# Altium schematic symbol library WH1602B.SchLib: 1 symbol
Pins are listed as number, name and electrical type; pins without a type are passive.

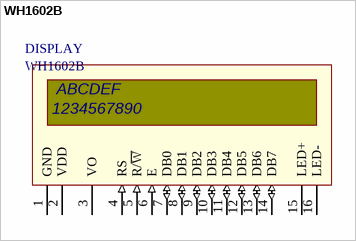
[diagram p0: symbol WH1602B]

## WH1602B
designator DISPLAY
Winstar Display Module; value: WH1602B-NYG-CT
footprint WH1602B
pins: 1 GND (power), 2 VDD (power), 3 VO, 4 RS (in), 5 R/~{W} (in), 6 E (in), 7 DB0 (io), 8 DB1 (io), 9 DB2 (io), 10 DB3 (io), 11 DB4 (io), 12 DB5 (io), 13 DB6 (io), 14 DB7 (io), 15 LED+, 16 LED-
text: ABCDEF; 1234567890